# Altium schematic symbol library XMEGA.SchLib: 2 symbols
Pins are listed as number, name and electrical type; pins without a type are passive.

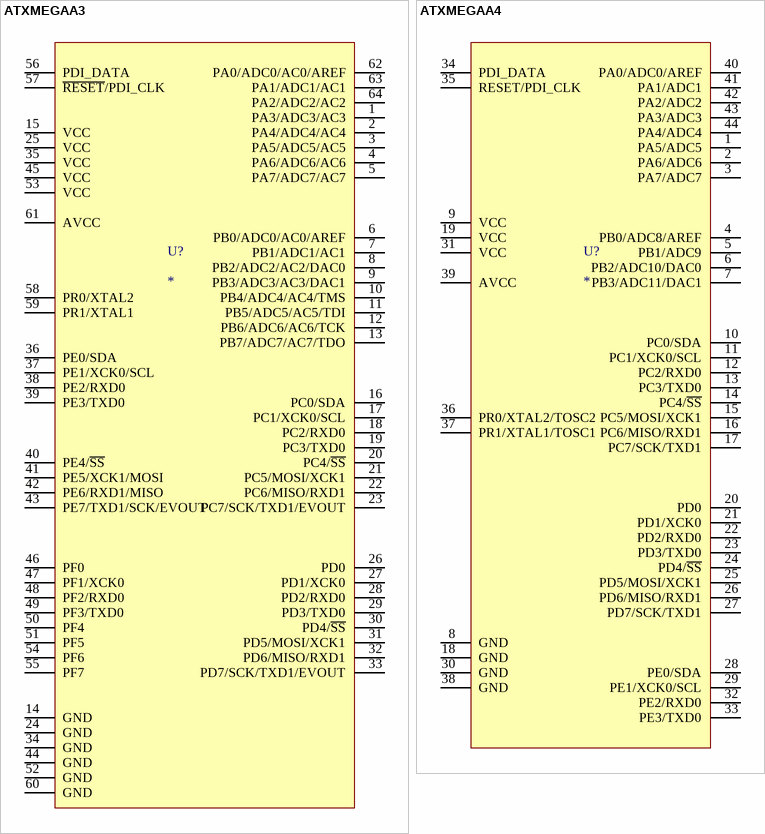
[diagram p0: symbols ATXMEGAA3 to ATXMEGAA4]

## ATXMEGAA3
designator U?
Manufacturer: Atmel; Part No.: ATXMEGA128A3; Vendor: Mouser; Price Est.: $8.06
footprint QFN-64 (64M2, 64-pad, 9 x 9 x 1.0 mm Body, Lead Pitch 0.50mm 7.65mm Exposed Pad)
pins: 1 PA3/ADC3/AC3, 2 PA4/ADC4/AC4, 3 PA5/ADC5/AC5, 4 PA6/ADC6/AC6, 5 PA7/ADC7/AC7, 6 PB0/ADC0/AC0/AREF, 7 PB1/ADC1/AC1, 8 PB2/ADC2/AC2/DAC0, 9 PB3/ADC3/AC3/DAC1, 10 PB4/ADC4/AC4/TMS, 11 PB5/ADC5/AC5/TDI, 12 PB6/ADC6/AC6/TCK, 13 PB7/ADC7/AC7/TDO, 14 GND, 15 VCC, 16 PC0/SDA, 17 PC1/XCK0/SCL, 18 PC2/RXD0, 19 PC3/TXD0, 20 PC4/~{SS}, 21 PC5/MOSI/XCK1, 22 PC6/MISO/RXD1, 23 PC7/SCK/TXD1/EVOUT, 24 GND, 25 VCC, 26 PD0, 27 PD1/XCK0, 28 PD2/RXD0, 29 PD3/TXD0, 30 PD4/~{SS}, 31 PD5/MOSI/XCK1, 32 PD6/MISO/RXD1, 33 PD7/SCK/TXD1/EVOUT, 34 GND, 35 VCC, 36 PE0/SDA, 37 PE1/XCK0/SCL, 38 PE2/RXD0, 39 PE3/TXD0, 40 PE4/~{SS}, 41 PE5/XCK1/MOSI, 42 PE6/RXD1/MISO, 43 PE7/TXD1/SCK/EVOUT, 44 GND, 45 VCC, 46 PF0, 47 PF1/XCK0, 48 PF2/RXD0, 49 PF3/TXD0, 50 PF4, 51 PF5, 52 GND, 53 VCC, 54 PF6, 55 PF7, 56 PDI_DATA, 57 ~{RESET}/PDI_CLK, 58 PR0/XTAL2, 59 PR1/XTAL1, 60 GND, 61 AVCC, 62 PA0/ADC0/AC0/AREF, 63 PA1/ADC1/AC1, 64 PA2/ADC2/AC2

## ATXMEGAA4
designator U?
Manufacturer: Atmel; Part No.: ATXMEGA32A4; Vendor: Digi-Key; Price Est.: $5.22
footprint TQFP-44 (TQFP, 44-Leads, Body 10x10mm)
footprint QFN-44 (VQFN 7x7 ATMEL, 44-Leads, Body 7x7mm)
pins: 1 PA5/ADC5, 2 PA6/ADC6, 3 PA7/ADC7, 4 PB0/ADC8/AREF, 5 PB1/ADC9, 6 PB2/ADC10/DAC0, 7 PB3/ADC11/DAC1, 8 GND, 9 VCC, 10 PC0/SDA, 11 PC1/XCK0/SCL, 12 PC2/RXD0, 13 PC3/TXD0, 14 PC4/~{SS}, 15 PC5/MOSI/XCK1, 16 PC6/MISO/RXD1, 17 PC7/SCK/TXD1, 18 GND, 19 VCC, 20 PD0, 21 PD1/XCK0, 22 PD2/RXD0, 23 PD3/TXD0, 24 PD4/~{SS}, 25 PD5/MOSI/XCK1, 26 PD6/MISO/RXD1, 27 PD7/SCK/TXD1, 28 PE0/SDA, 29 PE1/XCK0/SCL, 30 GND, 31 VCC, 32 PE2/RXD0, 33 PE3/TXD0, 34 PDI_DATA, 35 RESET/PDI_CLK, 36 PR0/XTAL2/TOSC2, 37 PR1/XTAL1/TOSC1, 38 GND, 39 AVCC, 40 PA0/ADC0/AREF, 41 PA1/ADC1, 42 PA2/ADC2, 43 PA3/ADC3, 44 PA4/ADC4